# Altium schematic symbol library SnapEDAsch.SchLib: 1 symbol
Pins are listed as number, name and electrical type; pins without a type are passive.

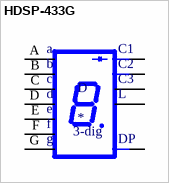
[diagram p0: symbol HDSP-433G]

## HDSP-433G
designator D
Display Modules - LED Character and Numeric Green 7-Segment 3 Character Common Cathode 2.25V 20mA 0.504 H x 1.182 W x 0.276 D _12.80mm x 30.02mm x 7.00mm_ 15-DIP _0.400, 10.16mm_, 12 Leads; MP: HDSP-433G; MF: Broadcom Limited; Package: DIP-15 Broadcom; Digi-Key_Purchase_URL: https://www.digikey.com/product-detail/en/broadcom-limited/HDSP-433G/516-3125-ND/2219091?utm_source=snapeda&utm_medium=aggregator&utm_campaign=symbol; Value: *; Digi-Key_Part_Number: 516-3125-ND; SnapEDA_Link: https://www.snapeda.com/parts/HDSP-433G/Broadcom%20Limited/view-part/1760683/?ref=snap
footprint HDSP-433G
pins: A, B, C, D, D1 C1, D2 C2, D3 C3, DP, E, F, G, L P$1
text: a; b; c; d; e; f; 3-dig; g